# Altium schematic symbol library USBUF02W6.SchLib: 1 symbol
Pins are listed as number, name and electrical type; pins without a type are passive.

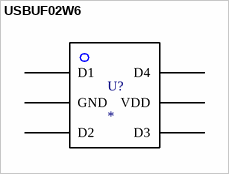
[diagram p0: symbol USBUF02W6]

## USBUF02W6
designator U?
footprint USBUF02W6
pins: 1 D1, 2 GND, 3 D2, 4 D3, 5 VDD, 6 D4